# Altium footprint library SM_L_6022.PcbLib: 1 footprints
Each footprint in its own frame and in the unit in brackets; x right, y up, seen from the top. Pads: shape width x height; smd on the part's side, far side on the other; paste and mask are expansions set on the pad; w line width, h text height; cw(c..) or ccw(c..) is an arc to the next point about the centre after c.
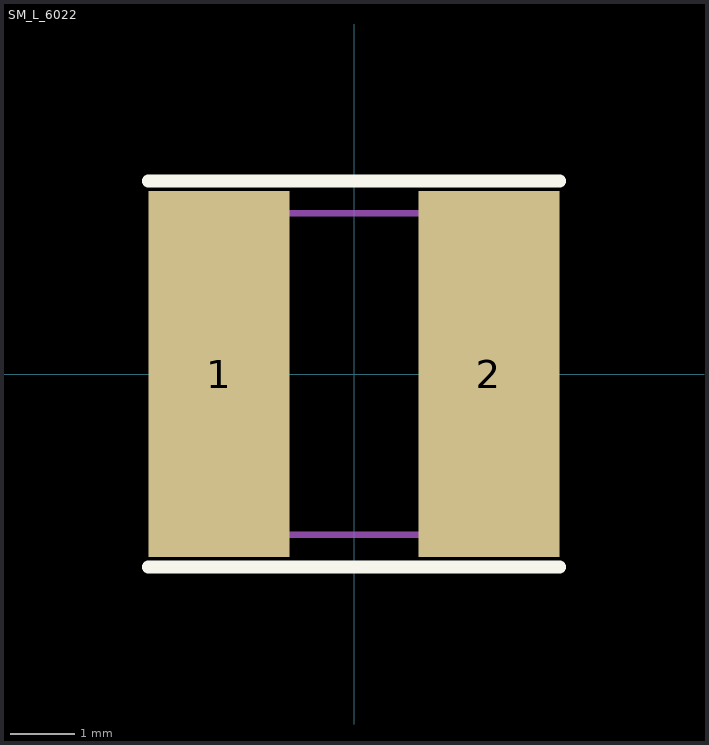
[diagram p0: the footprint, top view; thin cyan lines are the x and y axes]

## SM_L_6022 [mm]
height 2.2
pads (2):
  rect 2.2x5.7 smd: 1(-2.1,0) 2(2.1,0)
Top Overlay:
  lines w0.2: -3.2,-3 3.2,-3 ; -3.2,3 3.2,3
Mechanical 1:
  lines w0.1: -2.9,-2.5 -2.9,2.5 2.9,2.5 2.9,-2.5 -2.9,-2.5
3D body "ASPI-0615FS.STEP": height 2, standoff 0, extent -3,-3 3,3